# Altium schematic symbol library Off-Line 3W Non Isolated Power Supply.SCHLIB: 14 symbols
Pins are listed as number, name and electrical type; pins without a type are passive.

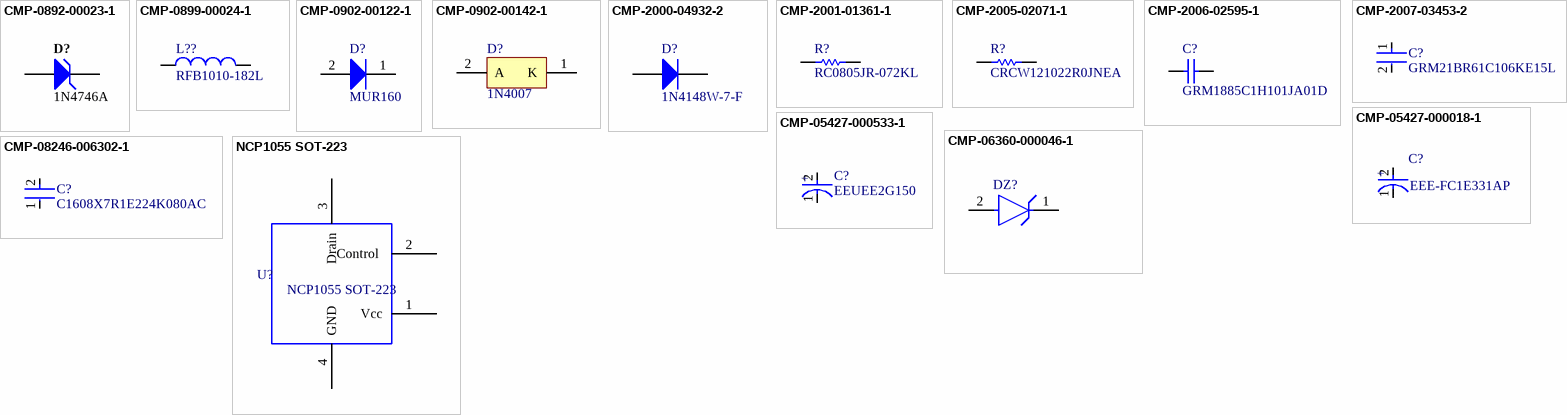
[diagram p0: symbols CMP-0892-00023-1 to NCP1055 SOT-223]

## CMP-0892-00023-1
designator D?, comment 1N4746A
Zener Diode, 18V, 1W, 5%, -65 to 200 degC, 2-Pin DO-41, Body 2.72 x 5.2 mm, RoHS; Manufacturer: Fairchild Semiconductor; VZ (Max.) (V): 18.9; IR (uA): 5; Test Current IZ (mA): 14; VZ (Min.) (V): 17.1; ZZ (Max) (ohm): 16; PD (W): 1; Operating and Storage Temperature Range: -65 to 200 degC; RoHS: TRUE; ComponentLink1URL: http://www.fairchildsemi.com/; DatasheetVersion: Rev. H3; ComponentLink2Description: Datasheet; ComponentLink3Description: Package Specification; Tolerance: 5%; ComponentLink3URL: http://www.fairchildsemi.com/dwg/DO/DO41A.pdf; PackageVersion: Rev. 2; PartNumber: 1N4746A; ComponentLink2URL: http://www.fairchildsemi.com/ds/1N/1N4744A.pdf; Mounting Technology: Through Hole; PackageDescription: 2-Pin Axial leaded, Body 2.72 x 5.2 mm, Lead Spread 25.4 mm; PackageReference: DO-41-2; ComponentLink1Description: Manufacturer URL
footprint FAIR-DO-41-2_V (2-Leads, Axial leaded, Body 2.72x5.2mm, Pin Spacing 9mm)
pins: 1 A, 2 K

## CMP-0899-00024-1
designator L??, comment RFB1010-182L
Power Inductor, 1.8 mH +/- 10%, 0.45 A, -40 to 125 degC, 2-Pin Radial Leaded, Dia 11 mm, RoHS, Tray; Manufacturer: Coilcraft; Inductance: 1.8 mH; Irms: 0.55 A @40 degC; DCR: 3.5 Ohm Max.; SRF: 1.3 MHz; Isat: 0.45 A; ComponentLink2Description: Datasheet; Tolerance: 10%; ComponentLink2URL: http://www.coilcraft.com/pdfs/rfb.pdf; DatasheetVersion: Sep-13; PackageReference: RFB1010-2; ComponentLink1URL: http://www.coilcraft.com/; Ambient Temperature Range: -40 to 125 degC; ComponentLink1Description: Manufacturer URL; Mounting Technology: Through Hole; PackageDescription: 2-Pin Radial Leaded, Dia 11 mm, Height 11.5 mm, Radial 6 mm; Packing: Tray; RoHS: TRUE; PartNumber: RFB1010-182L
footprint COIL-RFB1010-2_V (Radial Leaded, 2-Leads, Dia 11mm, Height 11.5mm, Pin Spacing 6mm)
pins: 1, 2

## CMP-0902-00122-1
designator D?, comment MUR160
SWITCHMODE(TM) Power Rectifier, 2-Pin Axial_Lead, Pb-Free, Bulk Box; Manufacturer: On Semiconductor; IFSM Max (A): 35; VRRM Max (V): 600; Type: Ultrafast; PackageDescription: 2-Pin, Axial Lead, Diameter 2.35 mm; ComponentLink1Description: Manufacturer URL; RoHS: TRUE; Mounting Technology: Through Hole; ComponentLink2URL: http://www.onsemi.com/pub_link/Collateral/MUR120-D.PDF; PartNumber: MUR160; ComponentLink3URL: http://www.onsemi.cn/pub_link/Collateral/59-10.PDF; ComponentLink2Description: Datasheet; Packing: Bulk Box; DatasheetVersion: Rev. 12; PackageVersion: Rev. U, 02/2005; PackageReference: AXIAL_LEAD-2-59-10; ComponentLink1URL: http://www.onsemi.com/; ComponentLink3Description: Package Specification
footprint ONSC-AXIAL_LEAD-2-59-10_P (AXIAL, 2-Leads, Diameter 2.35mm)
pins: 1 K, 2 A

## CMP-0902-00142-1
designator D?, comment 1N4007
Standard Recovery Rectifier, 2-Pin Axial_Lead, Pb-Free, Bulk Bag; Manufacturer: On Semiconductor; IO(rec) Max (A): 1; IFSM Max (A): 30; VRRM Max (V): 1000; ComponentLink3URL: http://www.onsemi.cn/pub_link/Collateral/59-10.PDF; PackageVersion: Rev. U, 02/2005; PackageDescription: 2-Pin, Axial Lead, Diameter 2.35 mm; PackageReference: AXIAL_LEAD-2-59-10; RoHS: TRUE; PartNumber: 1N4007; Packing: Bulk Bag; DatasheetVersion: Rev. 13; ComponentLink3Description: Package Specification; ComponentLink1Description: Manufacturer URL; ComponentLink2URL: http://www.onsemi.com/pub_link/Collateral/1N4001-D.PDF; ComponentLink1URL: http://www.onsemi.com/; Type: Standard Recovery; ComponentLink2Description: Datasheet; Mounting Technology: Through Hole
footprint ONSC-AXIAL_LEAD-2-59-10_P (AXIAL, 2-Leads, Diameter 2.35mm)
pins: 1 K, 2 A

## CMP-2000-04932-2
designator D?, comment 1N4148W-7-F
Fast Switching Diode, 100 V, 0.15 A, -65 to 150 degC, 2-Pin?SOD123, RoHS, Tape and Reel; Recovery Time: 4ns; Brand: DiodesIncorporated; Unit Weight: 0.000353oz; Max Surge Current: 2A; Peak Reverse Voltage: 100V; Ir - Reverse Current: 1uA; Vf - Forward Voltage: 1.25V; Configuration: Single; If - Forward Current: 0.15A; Product Category: Diodes-GeneralPurpose,Power,Switching; Operating Temperature Range: -65Cto+150C; Packaging: Reel; Manufacturer URL: http://www.diodes.com/; Maximum Operating Temperature: +150C; Height: 1.25mm; Minimum Operating Temperature: -65C; Product: SwitchingDiodes; Package URL: http://www.diodes.com/datasheets/ds18004.pdf; Type: SwitchingDiode; Package Reference: SOD123-2; Width: 1.7mm; Datasheet URL: http://www.farnell.com/datasheets/1915529.pdf; Datasheet Version: Rev. 24-2, 10/2013; Series: 1N4148; Factory Pack Quantity: 3000; Length: 2.85mm; RoHS: True; Manufacturer: DiodesIncorporated; Mounting Style: SMD/SMT; Package / Case: SOD-123
footprint DIOD-SOD123-2_V (SOD123, 2-Leads, Body 2.7x1.55mm, Height 1.45mm)
pins: 1 A, 2 K

## CMP-2001-01361-1
designator R?, comment RC0805JR-072KL
Manufacturer: Yageo; Part Number: RC0805JR-072KL
footprint RESC2013X60X35ML10T20 (Chip Resistor, 2-Leads, Body 2.00x1.25mm, IPC Low Density)
footprint RESC2013X60X35LL10T20 (Chip Resistor, 2-Leads, Body 2.00x1.25mm, IPC High Density)
footprint RESC2013X60X35NL10T20 (Chip Resistor, 2-Leads, Body 2.00x1.25mm, IPC Medium Density)
pins: 1, 2
1 alternate drawing of the same symbol

## CMP-2005-02071-1
designator R?, comment CRCW121022R0JNEA
Manufacturer: Vishay Dale; Part Number: CRCW121022R0JNEA
footprint RESC3225X60X45ML20T20 (Chip Resistor, 2-Leads, Body 3.20x2.50mm, IPC Low Density)
footprint RESC3225X60X45LL20T20 (Chip Resistor, 2-Leads, Body 3.20x2.50mm, IPC High Density)
footprint RESC3225X60X45NL20T20 (Chip Resistor, 2-Leads, Body 3.20x2.50mm, IPC Medium Density)
pins: 1, 2
1 alternate drawing of the same symbol

## CMP-2006-02595-1
designator C?, comment GRM1885C1H101JA01D
Manufacturer: Murata; Part Number: GRM1885C1H101JA01D
footprint CAPC1608X90X35NL10T15 (Chip Capacitor, 2-Leads, Body 1.60x0.80mm, IPC Medium Density)
footprint CAPC1608X90X35ML10T15 (Chip Capacitor, 2-Leads, Body 1.60x0.80mm, IPC Low Density)
footprint CAPC1608X90X35LL10T15 (Chip Capacitor, 2-Leads, Body 1.60x0.80mm, IPC High Density)
pins: 1, 2
1 alternate drawing of the same symbol

## CMP-2007-03453-2
designator C?, comment GRM21BR61C106KE15L
Chip Multilayer Ceramic Capacitors for General Purpose, 0805, 10uF, X5R, 15%, 10%, 16V; Radiation Hardening: No; Thickness: 0.053inch; Voltage Rating (DC): 16V; Lead Free: Lead Free; Package Quantity: 1; Width: 1.25mm; Case Code (Imperial): 0805; Depth: 1.25mm; Packaging: Tape and Reel; Dielectric: X5R; Max Operating Temperature: 85°C; Tolerance: 10%; Voltage Rating: 16V; Voltage: 16V; Capacitance: 10uF; Height: 1.25mm; Case Code (Metric): 2012; Material: Ceramic; Mount: Surface Mount; Case/Package: 0805; REACH SVHC: No SVHC; Length: 2mm; Min Operating Temperature: -55°C; Termination: SMD/SMT
footprint FP-GRM21B-0_1-IPC_C
footprint FP-GRM21B-0_1-MFG
footprint FP-GRM21B-0_1-IPC_A
footprint FP-GRM21B-0_1-IPC_B
pins: 1, 2

## CMP-05427-000018-1
designator C?, comment EEE-FC1E331AP
CAP ALUM 330UF 20% 25V SMD; Leakage Current: 3uA; Ripple Current (AC): 670mA; Impedance: 150mR; Life (Hours): 1000Hour; Lead Length: 3.5mm; Dielectric Material: Aluminium; Packaging: Tape and Reel; Diameter: 10mm; Contact Plating: Tin; Voltage Rating: 25V; Voltage Rating (DC): 25V; Width: 10.3mm; Case/Package: Radial; Lead Pitch: 4.6mm; Termination: SMD/SMT; Min Operating Temperature: -40°C; Radiation Hardening: No; Height - Seated (Max): 0.402inch; Mount: Surface Mount; Ripple Current: 670mA; Tolerance: 20%; Max Operating Temperature: 105°C; ESR (Equivalent Series Resistance): 150mR; Number of Pins: 2; Length: 10.5mm; REACH SVHC: No SVHC; Voltage: 25V; Height: 10.2mm; Lead Free: Lead Free; Capacitance: 330uF; Package Quantity: 1
footprint FP-FC-G-MFG
pins: 1 C, 2 A
text: +

## CMP-05427-000533-1
designator C?, comment EEUEE2G150
Aluminum Electrolytic Capacitors (Radial Lead Type) 15uF ±20% 400V; Leakage Current: 370uA; Life (Hours): 10000Hour; Ripple Current: 590mA; Dielectric Material: Aluminium; Polarity: Polar; Lead Diameter: 0.6mm; Dissipation Factor: 0.24%; Construction: RADIAL; Package Quantity: 200; Min Operating Temperature: -25°C; Case/Package: Radial; Voltage: 400V; Tolerance: 20%; Voltage Rating: 400V; Mount: Through Hole; REACH SVHC: No SVHC; Height: 20mm; Capacitance: 15uF; Series: EE; Length: 20mm; Packaging: Bulk; Height - Seated (Max): 0.866inch; Ripple Current (AC): 590mA; Number of Pins: 2; Voltage Rating (DC): 400V; Radiation Hardening: No; Lead Free: Lead Free; Max Operating Temperature: 105°C; RoHS Compliant: Yes; Diameter: 12.5mm; Termination: Radial; Lead Pitch: 5mm
footprint FP-RAD-TH-D_12_5_0_5-L_20-MFG
pins: 1 C, 2 A
text: +

## CMP-06360-000046-1
designator DZ?, comment 1N5240BUR-1
DIODE ZENER
footprint FP-DO-213AA-MFG
pins: 1 C, 2 A

## CMP-08246-006302-1
designator C?, comment C1608X7R1E224K080AC
Multilayer Ceramic Capacitors 220nF ±10% 25V X7R SMD 0603; Lead Free: Lead Free; Radiation Hardening: No; Min Operating Temperature: -55°C; RoHS Compliant: Yes; Series: C; Depth: 0.8mm; Capacitance: 220nF; Case/Package: 0603; Max Operating Temperature: 125°C; Dielectric Material: Ceramic; Construction: Flat; REACH SVHC: No SVHC; Packaging: Tape and Reel; Voltage Rating: 25V; Thickness: 0.037inch; Width: 0.031inch; Number of Pins: 2; Package Quantity: 1; Weight: 7.1E-05oz; Mount: Surface Mount; Length: 1.6mm; Case Code (Imperial): 0603; Resistor Type: Ceramic; Voltage Rating (DC): 25V; Height: 0.8mm; Termination: SMD/SMT; Dielectric: X7R; Case Code (Metric): 1608; Tolerance: 10%
footprint FP-C1608-080-0_1-IPC_B
footprint FP-C1608-080-0_1-IPC_A
footprint FP-C1608-080-0_1-IPC_C
footprint FP-C1608-080-0_1-MFG
pins: 1, 2

## NCP1055 SOT-223
designator U?
footprint NCP1055 SOT-223 (SOT223, 4-Leads, Body 6.50x7.00mm (avg), Pitch 2.30mm, IPC Medium Density)
pins: 1 Vcc, 2 Control , 3 Drain, 4 GND